# Altium integrated library TI_Logic_Flip-Flop,Latch,Register.IntLib: 2598 symbols (part 109 of 122)
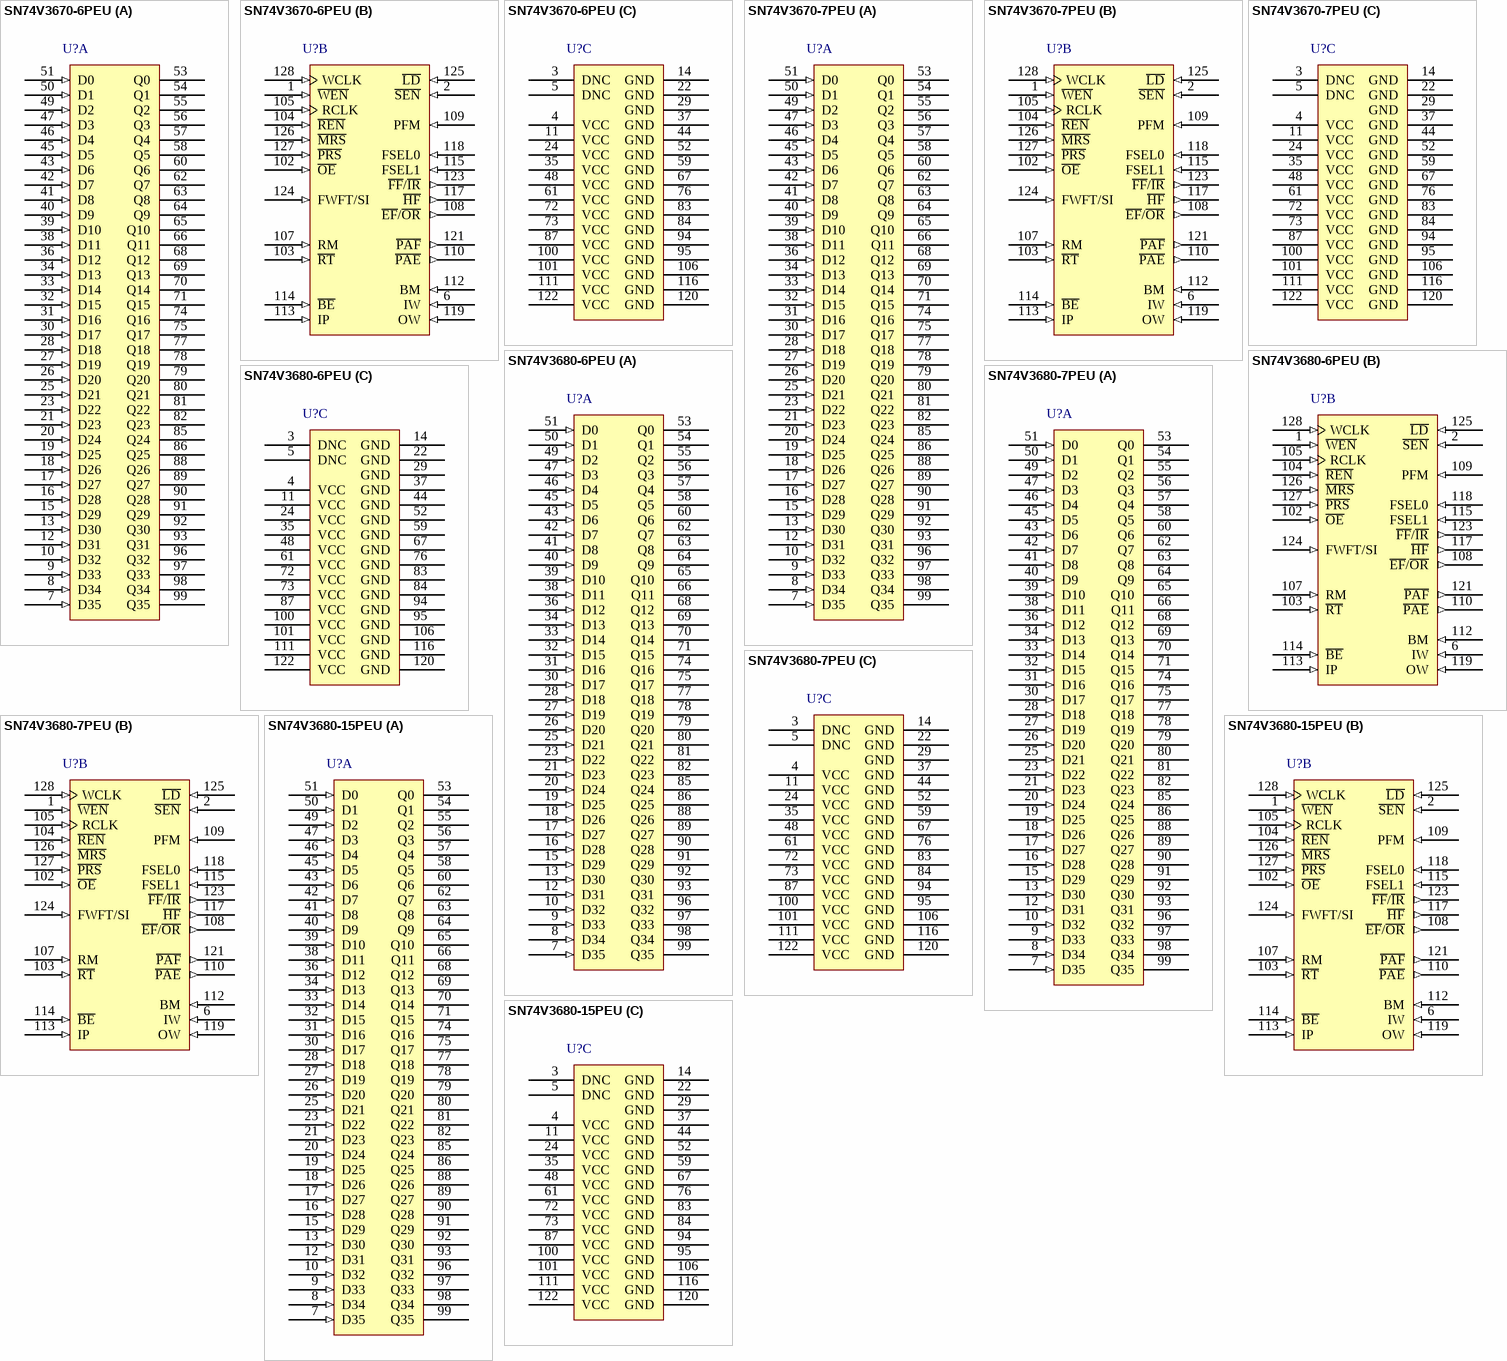
[diagram p247: symbols SN74V3670-6PEU to SN74V3680-15PEU]

## SN74V3680-6PEU
designator U?
16384 x 36 Synchronous FIFO Memory, PEU0128A, JEDEC TRAY (5+1); Generic Part Number: SN74V3680; Manufacturer: Texas Instruments; PartNumber: SN74V3680-6PEU; Vcc range(V): 3.15 to 3.45; Fmax(MHz): 166; Voltage Nodes(V): 3.3; Sync/Async: S; Rating: Catalog; Output Drive(mA): -0.25; Flags Empty: 1; DatasheetVersion: SCAS668A; PackageReference: PEU0128A; Depth: 16384; Width: 36; Operating Temperature Range(C): 0 to 70; Flags Full: 1; Flags Half: 1; Code_JEDEC: MS-206; ComponentLink1Description: Manufacturer URL; ComponentLink1URL: http://www.ti.com/; ComponentLink2Description: Datasheet; ComponentLink2URL: http://www.ti.com/lit/ds/symlink/sn74v3680.pdf; ComponentLink3Description: Package Specification; ComponentLink3URL: http://www.ti.com/lit/ml/mpqf058b/mpqf058b.pdf
footprint PEU0128A_N (QFP, 128-Leads, Body 20x14mm, Pitch 0.5mm, IPC Medium Density)
footprint PEU0128A_M (QFP, 128-Leads, Body 20x14mm, Pitch 0.5mm, IPC Low Density)
footprint PEU0128A_L (QFP, 128-Leads, Body 20x14mm, Pitch 0.5mm, IPC High Density)
part A pins: 7 D35 (in) "Data inputs. Data inputs for a 36-, 18-, or 9-bit bus. When in 18- or 9-bit mode, the unused input pins are in a don’t-care state.", 8 D34 (in) "Data inputs. Data inputs for a 36-, 18-, or 9-bit bus. When in 18- or 9-bit mode, the unused input pins are in a don’t-care state.", 9 D33 (in) "Data inputs. Data inputs for a 36-, 18-, or 9-bit bus. When in 18- or 9-bit mode, the unused input pins are in a don’t-care state.", 10 D32 (in) "Data inputs. Data inputs for a 36-, 18-, or 9-bit bus. When in 18- or 9-bit mode, the unused input pins are in a don’t-care state.", 12 D31 (in) "Data inputs. Data inputs for a 36-, 18-, or 9-bit bus. When in 18- or 9-bit mode, the unused input pins are in a don’t-care state.", 13 D30 (in) "Data inputs. Data inputs for a 36-, 18-, or 9-bit bus. When in 18- or 9-bit mode, the unused input pins are in a don’t-care state.", 15 D29 (in) "Data inputs. Data inputs for a 36-, 18-, or 9-bit bus. When in 18- or 9-bit mode, the unused input pins are in a don’t-care state.", 16 D28 (in) "Data inputs. Data inputs for a 36-, 18-, or 9-bit bus. When in 18- or 9-bit mode, the unused input pins are in a don’t-care state.", 17 D27 (in) "Data inputs. Data inputs for a 36-, 18-, or 9-bit bus. When in 18- or 9-bit mode, the unused input pins are in a don’t-care state.", 18 D26 (in) "Data inputs. Data inputs for a 36-, 18-, or 9-bit bus. When in 18- or 9-bit mode, the unused input pins are in a don’t-care state.", 19 D25 (in) "Data inputs. Data inputs for a 36-, 18-, or 9-bit bus. When in 18- or 9-bit mode, the unused input pins are in a don’t-care state.", 20 D24 (in) "Data inputs. Data inputs for a 36-, 18-, or 9-bit bus. When in 18- or 9-bit mode, the unused input pins are in a don’t-care state.", 21 D23 (in) "Data inputs. Data inputs for a 36-, 18-, or 9-bit bus. When in 18- or 9-bit mode, the unused input pins are in a don’t-care state.", 23 D22 (in) "Data inputs. Data inputs for a 36-, 18-, or 9-bit bus. When in 18- or 9-bit mode, the unused input pins are in a don’t-care state.", 25 D21 (in) "Data inputs. Data inputs for a 36-, 18-, or 9-bit bus. When in 18- or 9-bit mode, the unused input pins are in a don’t-care state.", 26 D20 (in) "Data inputs. Data inputs for a 36-, 18-, or 9-bit bus. When in 18- or 9-bit mode, the unused input pins are in a don’t-care state.", 27 D19 (in) "Data inputs. Data inputs for a 36-, 18-, or 9-bit bus. When in 18- or 9-bit mode, the unused input pins are in a don’t-care state.", 28 D18 (in) "Data inputs. Data inputs for a 36-, 18-, or 9-bit bus. When in 18- or 9-bit mode, the unused input pins are in a don’t-care state.", 30 D17 (in) "Data inputs. Data inputs for a 36-, 18-, or 9-bit bus. When in 18- or 9-bit mode, the unused input pins are in a don’t-care state.", 31 D16 (in) "Data inputs. Data inputs for a 36-, 18-, or 9-bit bus. When in 18- or 9-bit mode, the unused input pins are in a don’t-care state.", 32 D15 (in) "Data inputs. Data inputs for a 36-, 18-, or 9-bit bus. When in 18- or 9-bit mode, the unused input pins are in a don’t-care state.", 33 D14 (in) "Data inputs. Data inputs for a 36-, 18-, or 9-bit bus. When in 18- or 9-bit mode, the unused input pins are in a don’t-care state.", 34 D13 (in) "Data inputs. Data inputs for a 36-, 18-, or 9-bit bus. When in 18- or 9-bit mode, the unused input pins are in a don’t-care state.", 36 D12 (in) "Data inputs. Data inputs for a 36-, 18-, or 9-bit bus. When in 18- or 9-bit mode, the unused input pins are in a don’t-care state.", 38 D11 (in) "Data inputs. Data inputs for a 36-, 18-, or 9-bit bus. When in 18- or 9-bit mode, the unused input pins are in a don’t-care state.", 39 D10 (in) "Data inputs. Data inputs for a 36-, 18-, or 9-bit bus. When in 18- or 9-bit mode, the unused input pins are in a don’t-care state.", 40 D9 (in) "Data inputs. Data inputs for a 36-, 18-, or 9-bit bus. When in 18- or 9-bit mode, the unused input pins are in a don’t-care state.", 41 D8 (in) "Data inputs. Data inputs for a 36-, 18-, or 9-bit bus. When in 18- or 9-bit mode, the unused input pins are in a don’t-care state.", 42 D7 (in) "Data inputs. Data inputs for a 36-, 18-, or 9-bit bus. When in 18- or 9-bit mode, the unused input pins are in a don’t-care state.", 43 D6 (in) "Data inputs. Data inputs for a 36-, 18-, or 9-bit bus. When in 18- or 9-bit mode, the unused input pins are in a don’t-care state.", 45 D5 (in) "Data inputs. Data inputs for a 36-, 18-, or 9-bit bus. When in 18- or 9-bit mode, the unused input pins are in a don’t-care state.", 46 D4 (in) "Data inputs. Data inputs for a 36-, 18-, or 9-bit bus. When in 18- or 9-bit mode, the unused input pins are in a don’t-care state.", 47 D3 (in) "Data inputs. Data inputs for a 36-, 18-, or 9-bit bus. When in 18- or 9-bit mode, the unused input pins are in a don’t-care state.", 49 D2 (in) "Data inputs. Data inputs for a 36-, 18-, or 9-bit bus. When in 18- or 9-bit mode, the unused input pins are in a don’t-care state.", 50 D1 (in) "Data inputs. Data inputs for a 36-, 18-, or 9-bit bus. When in 18- or 9-bit mode, the unused input pins are in a don’t-care state.", 51 D0 (in) "Data inputs. Data inputs for a 36-, 18-, or 9-bit bus. When in 18- or 9-bit mode, the unused input pins are in a don’t-care state.", 53 Q0 (hiz) "Data outputs. Data outputs for a 36-, 18-, or 9-bit bus. When in 18- or 9-bit mode, the unused output pins are in a don’t-care state. Outputs are not 5-V tolerant, regardless of the state of O\E\.", 54 Q1 (hiz) "Data outputs. Data outputs for a 36-, 18-, or 9-bit bus. When in 18- or 9-bit mode, the unused output pins are in a don’t-care state. Outputs are not 5-V tolerant, regardless of the state of O\E\.", 55 Q2 (hiz) "Data outputs. Data outputs for a 36-, 18-, or 9-bit bus. When in 18- or 9-bit mode, the unused output pins are in a don’t-care state. Outputs are not 5-V tolerant, regardless of the state of O\E\.", 56 Q3 (hiz) "Data outputs. Data outputs for a 36-, 18-, or 9-bit bus. When in 18- or 9-bit mode, the unused output pins are in a don’t-care state. Outputs are not 5-V tolerant, regardless of the state of O\E\.", 57 Q4 (hiz) "Data outputs. Data outputs for a 36-, 18-, or 9-bit bus. When in 18- or 9-bit mode, the unused output pins are in a don’t-care state. Outputs are not 5-V tolerant, regardless of the state of O\E\.", 58 Q5 (hiz) "Data outputs. Data outputs for a 36-, 18-, or 9-bit bus. When in 18- or 9-bit mode, the unused output pins are in a don’t-care state. Outputs are not 5-V tolerant, regardless of the state of O\E\.", 60 Q6 (hiz) "Data outputs. Data outputs for a 36-, 18-, or 9-bit bus. When in 18- or 9-bit mode, the unused output pins are in a don’t-care state. Outputs are not 5-V tolerant, regardless of the state of O\E\.", 62 Q7 (hiz) "Data outputs. Data outputs for a 36-, 18-, or 9-bit bus. When in 18- or 9-bit mode, the unused output pins are in a don’t-care state. Outputs are not 5-V tolerant, regardless of the state of O\E\.", 63 Q8 (hiz) "Data outputs. Data outputs for a 36-, 18-, or 9-bit bus. When in 18- or 9-bit mode, the unused output pins are in a don’t-care state. Outputs are not 5-V tolerant, regardless of the state of O\E\.", 64 Q9 (hiz) "Data outputs. Data outputs for a 36-, 18-, or 9-bit bus. When in 18- or 9-bit mode, the unused output pins are in a don’t-care state. Outputs are not 5-V tolerant, regardless of the state of O\E\.", 65 Q10 (hiz) "Data outputs. Data outputs for a 36-, 18-, or 9-bit bus. When in 18- or 9-bit mode, the unused output pins are in a don’t-care state. Outputs are not 5-V tolerant, regardless of the state of O\E\.", 66 Q11 (hiz) "Data outputs. Data outputs for a 36-, 18-, or 9-bit bus. When in 18- or 9-bit mode, the unused output pins are in a don’t-care state. Outputs are not 5-V tolerant, regardless of the state of O\E\.", 68 Q12 (hiz) "Data outputs. Data outputs for a 36-, 18-, or 9-bit bus. When in 18- or 9-bit mode, the unused output pins are in a don’t-care state. Outputs are not 5-V tolerant, regardless of the state of O\E\.", 69 Q13 (hiz) "Data outputs. Data outputs for a 36-, 18-, or 9-bit bus. When in 18- or 9-bit mode, the unused output pins are in a don’t-care state. Outputs are not 5-V tolerant, regardless of the state of O\E\.", 70 Q14 (hiz) "Data outputs. Data outputs for a 36-, 18-, or 9-bit bus. When in 18- or 9-bit mode, the unused output pins are in a don’t-care state. Outputs are not 5-V tolerant, regardless of the state of O\E\.", 71 Q15 (hiz) "Data outputs. Data outputs for a 36-, 18-, or 9-bit bus. When in 18- or 9-bit mode, the unused output pins are in a don’t-care state. Outputs are not 5-V tolerant, regardless of the state of O\E\.", 74 Q16 (hiz) "Data outputs. Data outputs for a 36-, 18-, or 9-bit bus. When in 18- or 9-bit mode, the unused output pins are in a don’t-care state. Outputs are not 5-V tolerant, regardless of the state of O\E\.", 75 Q17 (hiz) "Data outputs. Data outputs for a 36-, 18-, or 9-bit bus. When in 18- or 9-bit mode, the unused output pins are in a don’t-care state. Outputs are not 5-V tolerant, regardless of the state of O\E\.", 77 Q18 (hiz) "Data outputs. Data outputs for a 36-, 18-, or 9-bit bus. When in 18- or 9-bit mode, the unused output pins are in a don’t-care state. Outputs are not 5-V tolerant, regardless of the state of O\E\.", 78 Q19 (hiz) "Data outputs. Data outputs for a 36-, 18-, or 9-bit bus. When in 18- or 9-bit mode, the unused output pins are in a don’t-care state. Outputs are not 5-V tolerant, regardless of the state of O\E\.", 79 Q20 (hiz) "Data outputs. Data outputs for a 36-, 18-, or 9-bit bus. When in 18- or 9-bit mode, the unused output pins are in a don’t-care state. Outputs are not 5-V tolerant, regardless of the state of O\E\.", 80 Q21 (hiz) "Data outputs. Data outputs for a 36-, 18-, or 9-bit bus. When in 18- or 9-bit mode, the unused output pins are in a don’t-care state. Outputs are not 5-V tolerant, regardless of the state of O\E\.", 81 Q22 (hiz) "Data outputs. Data outputs for a 36-, 18-, or 9-bit bus. When in 18- or 9-bit mode, the unused output pins are in a don’t-care state. Outputs are not 5-V tolerant, regardless of the state of O\E\.", 82 Q23 (hiz) "Data outputs. Data outputs for a 36-, 18-, or 9-bit bus. When in 18- or 9-bit mode, the unused output pins are in a don’t-care state. Outputs are not 5-V tolerant, regardless of the state of O\E\.", 85 Q24 (hiz) "Data outputs. Data outputs for a 36-, 18-, or 9-bit bus. When in 18- or 9-bit mode, the unused output pins are in a don’t-care state. Outputs are not 5-V tolerant, regardless of the state of O\E\.", 86 Q25 (hiz) "Data outputs. Data outputs for a 36-, 18-, or 9-bit bus. When in 18- or 9-bit mode, the unused output pins are in a don’t-care state. Outputs are not 5-V tolerant, regardless of the state of O\E\.", 88 Q26 (hiz) "Data outputs. Data outputs for a 36-, 18-, or 9-bit bus. When in 18- or 9-bit mode, the unused output pins are in a don’t-care state. Outputs are not 5-V tolerant, regardless of the state of O\E\.", 89 Q27 (hiz) "Data outputs. Data outputs for a 36-, 18-, or 9-bit bus. When in 18- or 9-bit mode, the unused output pins are in a don’t-care state. Outputs are not 5-V tolerant, regardless of the state of O\E\.", 90 Q28 (hiz) "Data outputs. Data outputs for a 36-, 18-, or 9-bit bus. When in 18- or 9-bit mode, the unused output pins are in a don’t-care state. Outputs are not 5-V tolerant, regardless of the state of O\E\.", 91 Q29 (hiz) "Data outputs. Data outputs for a 36-, 18-, or 9-bit bus. When in 18- or 9-bit mode, the unused output pins are in a don’t-care state. Outputs are not 5-V tolerant, regardless of the state of O\E\.", 92 Q30 (hiz) "Data outputs. Data outputs for a 36-, 18-, or 9-bit bus. When in 18- or 9-bit mode, the unused output pins are in a don’t-care state. Outputs are not 5-V tolerant, regardless of the state of O\E\.", 93 Q31 (hiz) "Data outputs. Data outputs for a 36-, 18-, or 9-bit bus. When in 18- or 9-bit mode, the unused output pins are in a don’t-care state. Outputs are not 5-V tolerant, regardless of the state of O\E\.", 96 Q32 (hiz) "Data outputs. Data outputs for a 36-, 18-, or 9-bit bus. When in 18- or 9-bit mode, the unused output pins are in a don’t-care state. Outputs are not 5-V tolerant, regardless of the state of O\E\.", 97 Q33 (hiz) "Data outputs. Data outputs for a 36-, 18-, or 9-bit bus. When in 18- or 9-bit mode, the unused output pins are in a don’t-care state. Outputs are not 5-V tolerant, regardless of the state of O\E\.", 98 Q34 (hiz) "Data outputs. Data outputs for a 36-, 18-, or 9-bit bus. When in 18- or 9-bit mode, the unused output pins are in a don’t-care state. Outputs are not 5-V tolerant, regardless of the state of O\E\.", 99 Q35 (hiz) "Data outputs. Data outputs for a 36-, 18-, or 9-bit bus. When in 18- or 9-bit mode, the unused output pins are in a don’t-care state. Outputs are not 5-V tolerant, regardless of the state of O\E\."
part B pins: 1 ~{WEN} (in) "Write enable. W\E\N\ enables WCLK for writing data into the FIFO memory and offset registers.", 2 ~{SEN} (in) "Serial enable. S\E\N\ enables serial loading of programmable flag offsets.", 6 IW (in) "Input width. IW, along with OW and BM, selects the bus width of the write port.", 102 ~{OE} (in) "Output enable. O\E\ controls the output impedance of Qn.", 103 ~{RT} (in) "Retransmit. R\T\ asserted on the rising edge of RCLK initializes the READ pointer to zero, sets the E\F\ flag to low (O\R\ to high in FWFT mode) and does not disturb the write pointer, programming method, existing timing (See Datasheet)", 104 ~{REN} (in) "Read enable. R\E\N\ enables RCLK for reading data from the FIFO memory and offset registers.", 105 RCLK (in) "Read clock. When enabled by R\E\N\, the rising edge of RCLK reads data from the FIFO memory and offsets from the programmable registers.", 107 RM (in) "Retransmit latency mode. During master reset, a low on RM selects zero-latency retransmit timing mode. A high on RM selects normal-latency mode.", 108 ~{EF}/~{OR} (out) "Empty flag/output ready. In standard mode, the E\F\ function is selected. E\F\ indicates whether the FIFO memory is empty. In FWFT mode, the O\R\ function is selected. O\R\ indicates whether there is valid data available at (See Datasheet)", 109 PFM (in) "Programmable-flag mode. During master reset, a low on PFM selects asynchronous programmable-flag timing mode. A high on PFM selects synchronous programmable-flag timing mode.", 110 ~{PAE} (out) "Programmable almost-empty flag. P\A\E\ goes low if the number of words in the FIFO memory is less than offset n, which is stored in the empty offset register. P\A\E\ goes high if the number of words in the FIFO memory is (See Datasheet)", 112 BM (in) "Bus matching. BM works with IW and OW to select the bus sizes for both write and read ports.", 113 IP (in) "Interspersed parity. During master reset, a low on IP selects noninterspersed-parity mode. A high selects interspersed-parity mode. Interspersed-parity control has an effect only during parallel programming of the offset (See Datasheet)", 114 ~{BE} (in) "Big endian/little endian. During master reset, a low on B\E\ selects big-endian operation. A high on B\E\ during master reset selects little-endian format.", 115 FSEL1 (in) "Flag-select bit 1. During master reset, FSEL1, along with FSEL0 and L\D\, selects the default offset values for P\A\E\ and P\A\F\. Up to eight possible settings are available.", 117 ~{HF} (out) "Half-full flag. H\F\ indicates whether the FIFO memory is more or less than half full.", 118 FSEL0 (in) "Flag-select bit 0. During master reset, FSEL0, along with FSEL1 and L\D\, selects the default offset values for P\A\E\ and P\A\F\. Up to eight possible settings are available.", 119 OW (in) "Output width. OW, along with IW and BM, selects the bus width of the read port.", 121 ~{PAF} (out) "Programmable almost-full flag. P\A\F\ goes high if the number of free locations in the FIFO memory is more than offset m, which is stored in the full offset register. P\A\F\ goes low if the number of free locations in the (See Datasheet)", 123 ~{FF}/~{IR} (out) "Full flag/input ready. In standard mode, the F\F\ function is selected. F\F\ indicates whether the FIFO memory is full. In FWFT mode, the I\R\ function is selected. I\R\ indicates whether there is space available for writing (See Datasheet)", 124 FWFT/SI (in) "First-word fall-through/serial in. During master reset, FWFT/SI selects FWFT or standard mode. After master reset, FWFT/SI functions as a serial input for loading offset registers.", 125 ~{LD} (in) "Load. This is a dual-purpose pin. During master reset, the state of L\D\, along with FSEL0 and FSEL1, determines one of eight default offset values for P\A\E\ and P\A\F\, along with the method by which these offset registers (See Datasheet)", 126 ~{MRS} (in) "Master reset. M\R\S\ initializes the read and write pointers to zero and sets the output register to all zeroes. During master reset, the FIFO is configured for either FWFT or standard mode, bus-matching configurations, one (See Datasheet)", 127 ~{PRS} (in) "Partial reset. P\R\S\ initializes the read and write pointers to zero and sets the output register to all zeroes. During partial reset, the existing mode (standard or FWFT), programming method (serial or parallel), and (See Datasheet)", 128 WCLK (in) "Write clock. When enabled by W\E\N\, the rising edge of WCLK writes data into the FIFO and offsets into the programmable registers for parallel programming and, when enabled by S\E\N\, the rising edge of WCLK writes one bit (See Datasheet)"
part C pins: 3 DNC "Do not connect", 4 VCC (power), 5 DNC "Do not connect", 11 VCC (power), 14 GND (power), 22 GND (power), 24 VCC (power), 29 GND (power), 35 VCC (power), 37 GND (power), 44 GND (power), 48 VCC (power), 52 GND (power), 59 GND (power), 61 VCC (power), 67 GND (power), 72 VCC (power), 73 VCC (power), 76 GND (power), 83 GND (power), 84 GND (power), 87 VCC (power), 94 GND (power), 95 GND (power), 100 VCC (power), 101 VCC (power), 106 GND (power), 111 VCC (power), 116 GND (power), 120 GND (power), 122 VCC (power)

## SN74V3680-7PEU
designator U?
16384 x 36 Synchronous FIFO Memory, PEU0128A, JEDEC TRAY (5+1); Generic Part Number: SN74V3680; Manufacturer: Texas Instruments; PartNumber: SN74V3680-7PEU; Vcc range(V): 3.15 to 3.45; Fmax(MHz): 166; Voltage Nodes(V): 3.3; Sync/Async: S; Rating: Catalog; Output Drive(mA): -0.25; Flags Empty: 1; DatasheetVersion: SCAS668A; PackageReference: PEU0128A; Depth: 16384; Width: 36; Operating Temperature Range(C): 0 to 70; Flags Full: 1; Flags Half: 1; Code_JEDEC: MS-206; ComponentLink1Description: Manufacturer URL; ComponentLink1URL: http://www.ti.com/; ComponentLink2Description: Datasheet; ComponentLink2URL: http://www.ti.com/lit/ds/symlink/sn74v3680.pdf; ComponentLink3Description: Package Specification; ComponentLink3URL: http://www.ti.com/lit/ml/mpqf058b/mpqf058b.pdf
footprint PEU0128A_N (QFP, 128-Leads, Body 20x14mm, Pitch 0.5mm, IPC Medium Density)
footprint PEU0128A_M (QFP, 128-Leads, Body 20x14mm, Pitch 0.5mm, IPC Low Density)
footprint PEU0128A_L (QFP, 128-Leads, Body 20x14mm, Pitch 0.5mm, IPC High Density)
part A pins: 7 D35 (in) "Data inputs. Data inputs for a 36-, 18-, or 9-bit bus. When in 18- or 9-bit mode, the unused input pins are in a don’t-care state.", 8 D34 (in) "Data inputs. Data inputs for a 36-, 18-, or 9-bit bus. When in 18- or 9-bit mode, the unused input pins are in a don’t-care state.", 9 D33 (in) "Data inputs. Data inputs for a 36-, 18-, or 9-bit bus. When in 18- or 9-bit mode, the unused input pins are in a don’t-care state.", 10 D32 (in) "Data inputs. Data inputs for a 36-, 18-, or 9-bit bus. When in 18- or 9-bit mode, the unused input pins are in a don’t-care state.", 12 D31 (in) "Data inputs. Data inputs for a 36-, 18-, or 9-bit bus. When in 18- or 9-bit mode, the unused input pins are in a don’t-care state.", 13 D30 (in) "Data inputs. Data inputs for a 36-, 18-, or 9-bit bus. When in 18- or 9-bit mode, the unused input pins are in a don’t-care state.", 15 D29 (in) "Data inputs. Data inputs for a 36-, 18-, or 9-bit bus. When in 18- or 9-bit mode, the unused input pins are in a don’t-care state.", 16 D28 (in) "Data inputs. Data inputs for a 36-, 18-, or 9-bit bus. When in 18- or 9-bit mode, the unused input pins are in a don’t-care state.", 17 D27 (in) "Data inputs. Data inputs for a 36-, 18-, or 9-bit bus. When in 18- or 9-bit mode, the unused input pins are in a don’t-care state.", 18 D26 (in) "Data inputs. Data inputs for a 36-, 18-, or 9-bit bus. When in 18- or 9-bit mode, the unused input pins are in a don’t-care state.", 19 D25 (in) "Data inputs. Data inputs for a 36-, 18-, or 9-bit bus. When in 18- or 9-bit mode, the unused input pins are in a don’t-care state.", 20 D24 (in) "Data inputs. Data inputs for a 36-, 18-, or 9-bit bus. When in 18- or 9-bit mode, the unused input pins are in a don’t-care state.", 21 D23 (in) "Data inputs. Data inputs for a 36-, 18-, or 9-bit bus. When in 18- or 9-bit mode, the unused input pins are in a don’t-care state.", 23 D22 (in) "Data inputs. Data inputs for a 36-, 18-, or 9-bit bus. When in 18- or 9-bit mode, the unused input pins are in a don’t-care state.", 25 D21 (in) "Data inputs. Data inputs for a 36-, 18-, or 9-bit bus. When in 18- or 9-bit mode, the unused input pins are in a don’t-care state.", 26 D20 (in) "Data inputs. Data inputs for a 36-, 18-, or 9-bit bus. When in 18- or 9-bit mode, the unused input pins are in a don’t-care state.", 27 D19 (in) "Data inputs. Data inputs for a 36-, 18-, or 9-bit bus. When in 18- or 9-bit mode, the unused input pins are in a don’t-care state.", 28 D18 (in) "Data inputs. Data inputs for a 36-, 18-, or 9-bit bus. When in 18- or 9-bit mode, the unused input pins are in a don’t-care state.", 30 D17 (in) "Data inputs. Data inputs for a 36-, 18-, or 9-bit bus. When in 18- or 9-bit mode, the unused input pins are in a don’t-care state.", 31 D16 (in) "Data inputs. Data inputs for a 36-, 18-, or 9-bit bus. When in 18- or 9-bit mode, the unused input pins are in a don’t-care state.", 32 D15 (in) "Data inputs. Data inputs for a 36-, 18-, or 9-bit bus. When in 18- or 9-bit mode, the unused input pins are in a don’t-care state.", 33 D14 (in) "Data inputs. Data inputs for a 36-, 18-, or 9-bit bus. When in 18- or 9-bit mode, the unused input pins are in a don’t-care state.", 34 D13 (in) "Data inputs. Data inputs for a 36-, 18-, or 9-bit bus. When in 18- or 9-bit mode, the unused input pins are in a don’t-care state.", 36 D12 (in) "Data inputs. Data inputs for a 36-, 18-, or 9-bit bus. When in 18- or 9-bit mode, the unused input pins are in a don’t-care state.", 38 D11 (in) "Data inputs. Data inputs for a 36-, 18-, or 9-bit bus. When in 18- or 9-bit mode, the unused input pins are in a don’t-care state.", 39 D10 (in) "Data inputs. Data inputs for a 36-, 18-, or 9-bit bus. When in 18- or 9-bit mode, the unused input pins are in a don’t-care state.", 40 D9 (in) "Data inputs. Data inputs for a 36-, 18-, or 9-bit bus. When in 18- or 9-bit mode, the unused input pins are in a don’t-care state.", 41 D8 (in) "Data inputs. Data inputs for a 36-, 18-, or 9-bit bus. When in 18- or 9-bit mode, the unused input pins are in a don’t-care state.", 42 D7 (in) "Data inputs. Data inputs for a 36-, 18-, or 9-bit bus. When in 18- or 9-bit mode, the unused input pins are in a don’t-care state.", 43 D6 (in) "Data inputs. Data inputs for a 36-, 18-, or 9-bit bus. When in 18- or 9-bit mode, the unused input pins are in a don’t-care state.", 45 D5 (in) "Data inputs. Data inputs for a 36-, 18-, or 9-bit bus. When in 18- or 9-bit mode, the unused input pins are in a don’t-care state.", 46 D4 (in) "Data inputs. Data inputs for a 36-, 18-, or 9-bit bus. When in 18- or 9-bit mode, the unused input pins are in a don’t-care state.", 47 D3 (in) "Data inputs. Data inputs for a 36-, 18-, or 9-bit bus. When in 18- or 9-bit mode, the unused input pins are in a don’t-care state.", 49 D2 (in) "Data inputs. Data inputs for a 36-, 18-, or 9-bit bus. When in 18- or 9-bit mode, the unused input pins are in a don’t-care state.", 50 D1 (in) "Data inputs. Data inputs for a 36-, 18-, or 9-bit bus. When in 18- or 9-bit mode, the unused input pins are in a don’t-care state.", 51 D0 (in) "Data inputs. Data inputs for a 36-, 18-, or 9-bit bus. When in 18- or 9-bit mode, the unused input pins are in a don’t-care state.", 53 Q0 (hiz) "Data outputs. Data outputs for a 36-, 18-, or 9-bit bus. When in 18- or 9-bit mode, the unused output pins are in a don’t-care state. Outputs are not 5-V tolerant, regardless of the state of O\E\.", 54 Q1 (hiz) "Data outputs. Data outputs for a 36-, 18-, or 9-bit bus. When in 18- or 9-bit mode, the unused output pins are in a don’t-care state. Outputs are not 5-V tolerant, regardless of the state of O\E\.", 55 Q2 (hiz) "Data outputs. Data outputs for a 36-, 18-, or 9-bit bus. When in 18- or 9-bit mode, the unused output pins are in a don’t-care state. Outputs are not 5-V tolerant, regardless of the state of O\E\.", 56 Q3 (hiz) "Data outputs. Data outputs for a 36-, 18-, or 9-bit bus. When in 18- or 9-bit mode, the unused output pins are in a don’t-care state. Outputs are not 5-V tolerant, regardless of the state of O\E\.", 57 Q4 (hiz) "Data outputs. Data outputs for a 36-, 18-, or 9-bit bus. When in 18- or 9-bit mode, the unused output pins are in a don’t-care state. Outputs are not 5-V tolerant, regardless of the state of O\E\.", 58 Q5 (hiz) "Data outputs. Data outputs for a 36-, 18-, or 9-bit bus. When in 18- or 9-bit mode, the unused output pins are in a don’t-care state. Outputs are not 5-V tolerant, regardless of the state of O\E\.", 60 Q6 (hiz) "Data outputs. Data outputs for a 36-, 18-, or 9-bit bus. When in 18- or 9-bit mode, the unused output pins are in a don’t-care state. Outputs are not 5-V tolerant, regardless of the state of O\E\.", 62 Q7 (hiz) "Data outputs. Data outputs for a 36-, 18-, or 9-bit bus. When in 18- or 9-bit mode, the unused output pins are in a don’t-care state. Outputs are not 5-V tolerant, regardless of the state of O\E\.", 63 Q8 (hiz) "Data outputs. Data outputs for a 36-, 18-, or 9-bit bus. When in 18- or 9-bit mode, the unused output pins are in a don’t-care state. Outputs are not 5-V tolerant, regardless of the state of O\E\.", 64 Q9 (hiz) "Data outputs. Data outputs for a 36-, 18-, or 9-bit bus. When in 18- or 9-bit mode, the unused output pins are in a don’t-care state. Outputs are not 5-V tolerant, regardless of the state of O\E\.", 65 Q10 (hiz) "Data outputs. Data outputs for a 36-, 18-, or 9-bit bus. When in 18- or 9-bit mode, the unused output pins are in a don’t-care state. Outputs are not 5-V tolerant, regardless of the state of O\E\.", 66 Q11 (hiz) "Data outputs. Data outputs for a 36-, 18-, or 9-bit bus. When in 18- or 9-bit mode, the unused output pins are in a don’t-care state. Outputs are not 5-V tolerant, regardless of the state of O\E\.", 68 Q12 (hiz) "Data outputs. Data outputs for a 36-, 18-, or 9-bit bus. When in 18- or 9-bit mode, the unused output pins are in a don’t-care state. Outputs are not 5-V tolerant, regardless of the state of O\E\.", 69 Q13 (hiz) "Data outputs. Data outputs for a 36-, 18-, or 9-bit bus. When in 18- or 9-bit mode, the unused output pins are in a don’t-care state. Outputs are not 5-V tolerant, regardless of the state of O\E\.", 70 Q14 (hiz) "Data outputs. Data outputs for a 36-, 18-, or 9-bit bus. When in 18- or 9-bit mode, the unused output pins are in a don’t-care state. Outputs are not 5-V tolerant, regardless of the state of O\E\.", 71 Q15 (hiz) "Data outputs. Data outputs for a 36-, 18-, or 9-bit bus. When in 18- or 9-bit mode, the unused output pins are in a don’t-care state. Outputs are not 5-V tolerant, regardless of the state of O\E\.", 74 Q16 (hiz) "Data outputs. Data outputs for a 36-, 18-, or 9-bit bus. When in 18- or 9-bit mode, the unused output pins are in a don’t-care state. Outputs are not 5-V tolerant, regardless of the state of O\E\.", 75 Q17 (hiz) "Data outputs. Data outputs for a 36-, 18-, or 9-bit bus. When in 18- or 9-bit mode, the unused output pins are in a don’t-care state. Outputs are not 5-V tolerant, regardless of the state of O\E\.", 77 Q18 (hiz) "Data outputs. Data outputs for a 36-, 18-, or 9-bit bus. When in 18- or 9-bit mode, the unused output pins are in a don’t-care state. Outputs are not 5-V tolerant, regardless of the state of O\E\.", 78 Q19 (hiz) "Data outputs. Data outputs for a 36-, 18-, or 9-bit bus. When in 18- or 9-bit mode, the unused output pins are in a don’t-care state. Outputs are not 5-V tolerant, regardless of the state of O\E\.", 79 Q20 (hiz) "Data outputs. Data outputs for a 36-, 18-, or 9-bit bus. When in 18- or 9-bit mode, the unused output pins are in a don’t-care state. Outputs are not 5-V tolerant, regardless of the state of O\E\.", 80 Q21 (hiz) "Data outputs. Data outputs for a 36-, 18-, or 9-bit bus. When in 18- or 9-bit mode, the unused output pins are in a don’t-care state. Outputs are not 5-V tolerant, regardless of the state of O\E\.", 81 Q22 (hiz) "Data outputs. Data outputs for a 36-, 18-, or 9-bit bus. When in 18- or 9-bit mode, the unused output pins are in a don’t-care state. Outputs are not 5-V tolerant, regardless of the state of O\E\.", 82 Q23 (hiz) "Data outputs. Data outputs for a 36-, 18-, or 9-bit bus. When in 18- or 9-bit mode, the unused output pins are in a don’t-care state. Outputs are not 5-V tolerant, regardless of the state of O\E\.", 85 Q24 (hiz) "Data outputs. Data outputs for a 36-, 18-, or 9-bit bus. When in 18- or 9-bit mode, the unused output pins are in a don’t-care state. Outputs are not 5-V tolerant, regardless of the state of O\E\.", 86 Q25 (hiz) "Data outputs. Data outputs for a 36-, 18-, or 9-bit bus. When in 18- or 9-bit mode, the unused output pins are in a don’t-care state. Outputs are not 5-V tolerant, regardless of the state of O\E\.", 88 Q26 (hiz) "Data outputs. Data outputs for a 36-, 18-, or 9-bit bus. When in 18- or 9-bit mode, the unused output pins are in a don’t-care state. Outputs are not 5-V tolerant, regardless of the state of O\E\.", 89 Q27 (hiz) "Data outputs. Data outputs for a 36-, 18-, or 9-bit bus. When in 18- or 9-bit mode, the unused output pins are in a don’t-care state. Outputs are not 5-V tolerant, regardless of the state of O\E\.", 90 Q28 (hiz) "Data outputs. Data outputs for a 36-, 18-, or 9-bit bus. When in 18- or 9-bit mode, the unused output pins are in a don’t-care state. Outputs are not 5-V tolerant, regardless of the state of O\E\.", 91 Q29 (hiz) "Data outputs. Data outputs for a 36-, 18-, or 9-bit bus. When in 18- or 9-bit mode, the unused output pins are in a don’t-care state. Outputs are not 5-V tolerant, regardless of the state of O\E\.", 92 Q30 (hiz) "Data outputs. Data outputs for a 36-, 18-, or 9-bit bus. When in 18- or 9-bit mode, the unused output pins are in a don’t-care state. Outputs are not 5-V tolerant, regardless of the state of O\E\.", 93 Q31 (hiz) "Data outputs. Data outputs for a 36-, 18-, or 9-bit bus. When in 18- or 9-bit mode, the unused output pins are in a don’t-care state. Outputs are not 5-V tolerant, regardless of the state of O\E\.", 96 Q32 (hiz) "Data outputs. Data outputs for a 36-, 18-, or 9-bit bus. When in 18- or 9-bit mode, the unused output pins are in a don’t-care state. Outputs are not 5-V tolerant, regardless of the state of O\E\.", 97 Q33 (hiz) "Data outputs. Data outputs for a 36-, 18-, or 9-bit bus. When in 18- or 9-bit mode, the unused output pins are in a don’t-care state. Outputs are not 5-V tolerant, regardless of the state of O\E\.", 98 Q34 (hiz) "Data outputs. Data outputs for a 36-, 18-, or 9-bit bus. When in 18- or 9-bit mode, the unused output pins are in a don’t-care state. Outputs are not 5-V tolerant, regardless of the state of O\E\.", 99 Q35 (hiz) "Data outputs. Data outputs for a 36-, 18-, or 9-bit bus. When in 18- or 9-bit mode, the unused output pins are in a don’t-care state. Outputs are not 5-V tolerant, regardless of the state of O\E\."
part B pins: 1 ~{WEN} (in) "Write enable. W\E\N\ enables WCLK for writing data into the FIFO memory and offset registers.", 2 ~{SEN} (in) "Serial enable. S\E\N\ enables serial loading of programmable flag offsets.", 6 IW (in) "Input width. IW, along with OW and BM, selects the bus width of the write port.", 102 ~{OE} (in) "Output enable. O\E\ controls the output impedance of Qn.", 103 ~{RT} (in) "Retransmit. R\T\ asserted on the rising edge of RCLK initializes the READ pointer to zero, sets the E\F\ flag to low (O\R\ to high in FWFT mode) and does not disturb the write pointer, programming method, existing timing (See Datasheet)", 104 ~{REN} (in) "Read enable. R\E\N\ enables RCLK for reading data from the FIFO memory and offset registers.", 105 RCLK (in) "Read clock. When enabled by R\E\N\, the rising edge of RCLK reads data from the FIFO memory and offsets from the programmable registers.", 107 RM (in) "Retransmit latency mode. During master reset, a low on RM selects zero-latency retransmit timing mode. A high on RM selects normal-latency mode.", 108 ~{EF}/~{OR} (out) "Empty flag/output ready. In standard mode, the E\F\ function is selected. E\F\ indicates whether the FIFO memory is empty. In FWFT mode, the O\R\ function is selected. O\R\ indicates whether there is valid data available at (See Datasheet)", 109 PFM (in) "Programmable-flag mode. During master reset, a low on PFM selects asynchronous programmable-flag timing mode. A high on PFM selects synchronous programmable-flag timing mode.", 110 ~{PAE} (out) "Programmable almost-empty flag. P\A\E\ goes low if the number of words in the FIFO memory is less than offset n, which is stored in the empty offset register. P\A\E\ goes high if the number of words in the FIFO memory is (See Datasheet)", 112 BM (in) "Bus matching. BM works with IW and OW to select the bus sizes for both write and read ports.", 113 IP (in) "Interspersed parity. During master reset, a low on IP selects noninterspersed-parity mode. A high selects interspersed-parity mode. Interspersed-parity control has an effect only during parallel programming of the offset (See Datasheet)", 114 ~{BE} (in) "Big endian/little endian. During master reset, a low on B\E\ selects big-endian operation. A high on B\E\ during master reset selects little-endian format.", 115 FSEL1 (in) "Flag-select bit 1. During master reset, FSEL1, along with FSEL0 and L\D\, selects the default offset values for P\A\E\ and P\A\F\. Up to eight possible settings are available.", 117 ~{HF} (out) "Half-full flag. H\F\ indicates whether the FIFO memory is more or less than half full.", 118 FSEL0 (in) "Flag-select bit 0. During master reset, FSEL0, along with FSEL1 and L\D\, selects the default offset values for P\A\E\ and P\A\F\. Up to eight possible settings are available.", 119 OW (in) "Output width. OW, along with IW and BM, selects the bus width of the read port.", 121 ~{PAF} (out) "Programmable almost-full flag. P\A\F\ goes high if the number of free locations in the FIFO memory is more than offset m, which is stored in the full offset register. P\A\F\ goes low if the number of free locations in the (See Datasheet)", 123 ~{FF}/~{IR} (out) "Full flag/input ready. In standard mode, the F\F\ function is selected. F\F\ indicates whether the FIFO memory is full. In FWFT mode, the I\R\ function is selected. I\R\ indicates whether there is space available for writing (See Datasheet)", 124 FWFT/SI (in) "First-word fall-through/serial in. During master reset, FWFT/SI selects FWFT or standard mode. After master reset, FWFT/SI functions as a serial input for loading offset registers.", 125 ~{LD} (in) "Load. This is a dual-purpose pin. During master reset, the state of L\D\, along with FSEL0 and FSEL1, determines one of eight default offset values for P\A\E\ and P\A\F\, along with the method by which these offset registers (See Datasheet)", 126 ~{MRS} (in) "Master reset. M\R\S\ initializes the read and write pointers to zero and sets the output register to all zeroes. During master reset, the FIFO is configured for either FWFT or standard mode, bus-matching configurations, one (See Datasheet)", 127 ~{PRS} (in) "Partial reset. P\R\S\ initializes the read and write pointers to zero and sets the output register to all zeroes. During partial reset, the existing mode (standard or FWFT), programming method (serial or parallel), and (See Datasheet)", 128 WCLK (in) "Write clock. When enabled by W\E\N\, the rising edge of WCLK writes data into the FIFO and offsets into the programmable registers for parallel programming and, when enabled by S\E\N\, the rising edge of WCLK writes one bit (See Datasheet)"
part C pins: 3 DNC "Do not connect", 4 VCC (power), 5 DNC "Do not connect", 11 VCC (power), 14 GND (power), 22 GND (power), 24 VCC (power), 29 GND (power), 35 VCC (power), 37 GND (power), 44 GND (power), 48 VCC (power), 52 GND (power), 59 GND (power), 61 VCC (power), 67 GND (power), 72 VCC (power), 73 VCC (power), 76 GND (power), 83 GND (power), 84 GND (power), 87 VCC (power), 94 GND (power), 95 GND (power), 100 VCC (power), 101 VCC (power), 106 GND (power), 111 VCC (power), 116 GND (power), 120 GND (power), 122 VCC (power)